# Altium schematic symbol library LSEUC3225HKT1R0M.SchLib: 1 symbol
Pins are listed as number, name and electrical type; pins without a type are passive.

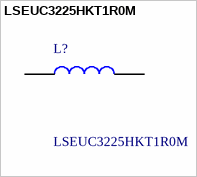
[diagram p0: symbol LSEUC3225HKT1R0M]

## LSEUC3225HKT1R0M
designator L?
Wire-wound Metal Power Inductors MCOIL LSEU series for General Electronic Equipment, 1.0uH+/-20%, 4.2A, 1210/3225 (EIA/JIS); Manufacturer_Name: TAIYO YUDEN; Geometry.Height: 0.8mm; Mouser Part Number: *; Mouser Price/Stock: *; Manufacturer_Part_Number: LSEUC3225HKT1R0M; Datasheet Link: https://ds.yuden.co.jp/TYCOMPAS/or/detail?pn=LSEUC3225HKT1R0M
footprint LSEUC3225HKT1R0M
pins: 1, 2